# Altium schematic symbol library SPST-NC Relay.SchLib: 1 symbol
Pins are listed as number, name and electrical type; pins without a type are passive.

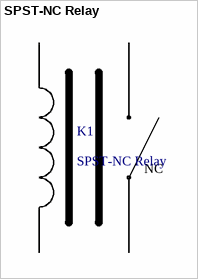
[diagram p0: symbol SPST-NC Relay]

## SPST-NC Relay
designator K1
footprint SPST-NC Relay - TE (PB1714-ND /    RYA50012)
pins: 11, 12, A1, A2
text: NC